# Altium schematic symbol library Connectors.SchLib: 3 symbols
Pins are listed as number, name and electrical type; pins without a type are passive.

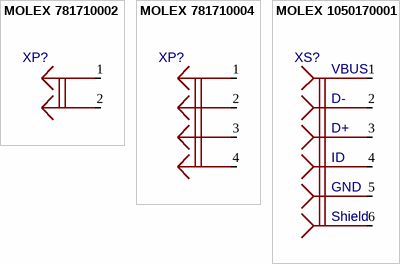
[diagram p0: symbols MOLEX 781710002 to MOLEX 1050170001]

## MOLEX 781710002
designator XP?  (value not drawn)
1.20mm Pitch, Pico-EZmate PCB Header, Single Row, Gold Plating, Friction Lock, 2 Circuits
footprint MOLEX 781710002
pins: 1, 2

## MOLEX 781710004
designator XP?  (value not drawn)
1.20mm Pitch, Pico-EZmate PCB Header, Single Row, Gold Plating, Friction Lock, 4 Circuits
footprint MOLEX 781710004
pins: 1, 2, 3, 4

## MOLEX 1050170001
designator XS?  (value not drawn)
footprint MOLEX 1050170001
pins: 1 VBUS, 2 D-, 3 D+, 4 ID, 5 GND, 6 SHIELD
text: Shield